# Altium schematic symbol library SCH - CONNECTORS - MOLEX 67800-5005.SCHLIB: 1 symbol
Pins are listed as number, name and electrical type; pins without a type are passive.

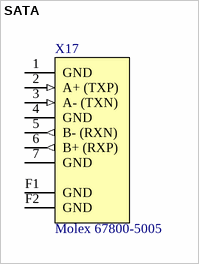
[diagram p0: symbol SATA]

## SATA
designator X17, comment Molex 67800-5005
SATA 7Pol. Connector Vertical; AN: 25614; Mixed: SMT; HelpURL: B:\AD\adlib\datasheet\67800-5005; H-ART: 67800-5005
footprint 67800-5005
pins: 1 GND (power), 2 A+ (TXP) (in), 3 A- (TXN) (in), 4 GND (power), 5 B- (RXN) (out), 6 B+ (RXP) (out), 7 GND (power), F1 GND (power), F2 GND (power)